# EAGLE library part DIP_SW_4BIT-SMD_1.27MM_PITCH (library 180118 Library by matsu)
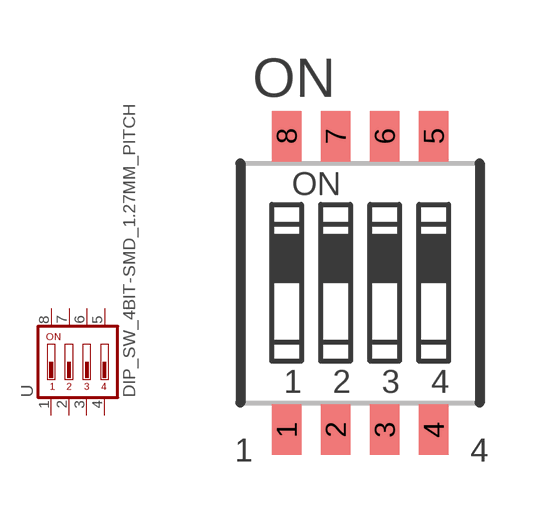
[diagram p47: symbol with the pads of DIP_SW_4BIT-SMD_1.27MM_PITCH; footprint DIP_SW_4BIT-SMD_1.27MM_PITCH]

Designator prefix -

## DIP_SW_4BIT-SMD_1.27MM_PITCH  [DIP_SW_4BIT-SMD_1.27MM_PITCH]
1  1  pas
2  2  pas
3  3  pas
4  4  pas
5  5  pas
6  6  pas
7  7  pas
8  8  pas

## Footprint DIP_SW_4BIT-SMD_1.27MM_PITCH (pad centres in mm)
Surface Mount DIP Switch Series 219 SMT CTS Electronic Components Sourc: www.ctscorp.com
smd 0.76 x 1.3: 1 -1.905,-3.8; 2 -0.635,-3.8; 3 0.635,-3.8; 4 1.905,-3.8; 5 1.905,3.8; 6 0.635,3.8; 7 -0.635,3.8; 8 -1.905,3.8